# EAGLE library part SLIDING_SWITCH (library 00_drich)
datasheet <http://www.ckswitches.com/media/1422/js.pdf>
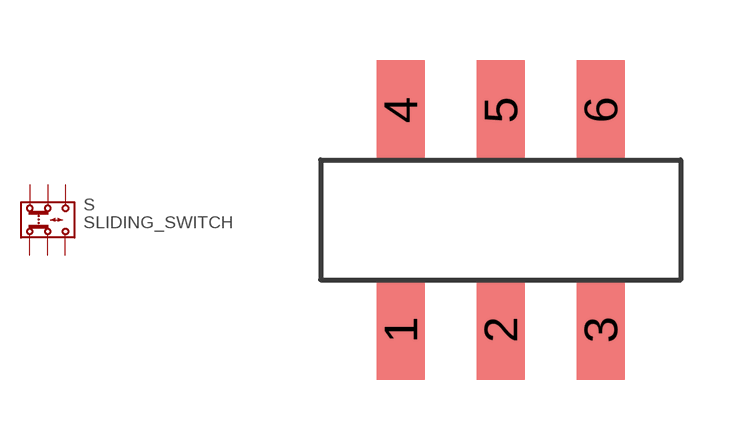
[diagram p2: symbol with the pads of DPDT; footprint DPDT]

Designator prefix S

## SLIDING_SWITCH (MPN: JS202011SCQN; POPULATE: 1)  [DPDT]
1  1  pas
2  2  pas
3  3  pas
4  4  pas
5  5  pas
6  6  pas

## Footprint DPDT (pad centres in mm)
smd 1.2 x 2.5: 1 -2.5,-2.75; 2 0,-2.75; 3 2.5,-2.75; 4 -2.5,2.75; 5 0,2.75; 6 2.5,2.75